# EAGLE library part ADP7102ARDZ-R7 (library ADP7102ARDZ-R7)
Linear Voltage Regulators 300mA HV LDO Source: Datasheet <https://www.arrow.com/en/products/adp7102ardz-r7/analog-devices?region=nac>
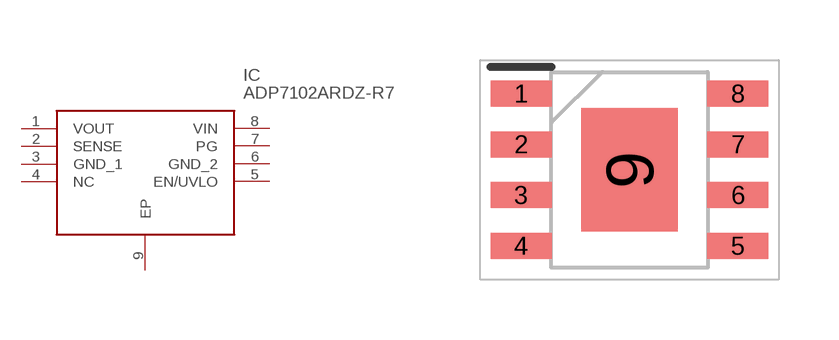
[diagram p0: symbol with the pads of SOIC127P600X175-9N; footprint SOIC127P600X175-9N]

Designator prefix IC

## ADP7102ARDZ-R7 (Arrow_Part_Number: ADP7102ARDZ-R7; Arrow_Price-Stock: https://www.arrow.com/en/products/adp7102ardz-r7/analog-devices?region=nac; Description: Linear Voltage Regulators 300mA HV LDO; Height: 1.75mm; Manufacturer_Name: Analog Devices; Manufacturer_Part_Number: ADP7102ARDZ-R7; Mouser_Part_Number: 584-ADP7102ARDZ-R7; Mouser_Price-Stock: https://www.mouser.co.uk/ProductDetail/Analog-Devices/ADP7102ARDZ-R7?qs=WIvQP4zGanhyecxhoOTYew%3D%3D)  [SOIC127P600X175-9N]
1  VOUT
2  SENSE
3  GND_1
4  NC  nc
5  EN/UVLO
6  GND_2
7  PG
8  VIN
9  EP

## Footprint SOIC127P600X175-9N (pad centres in mm)
8-Lead SOIC_N_EP4
smd 1.525 x 0.65: 1 -2.712,1.905; 2 -2.712,0.635; 3 -2.712,-0.635; 4 -2.712,-1.905; 5 2.712,-1.905; 6 2.712,-0.635; 7 2.712,0.635; 8 2.712,1.905
smd 2.41 x 3.098: 9 0,0